# Altium integrated library F-370P.IntLib: 1 symbol
Pins are listed as number, name and electrical type; pins without a type are passive.

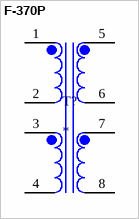
[diagram p0: symbol F-370P]

## F-370P
designator T?
Transformer; Power; 1; Freq 50/60Hz; Pri: 115V, 230VAC; Sec: Parallel 5V, Series 10V; MP: F-370P; Package: None; Price: None; Value: *; Availability: Unavailable
footprint XFMR_F-370P
pins: 1, 2, 3, 4, 5, 6, 7, 8